# EAGLE library part EAOLEDL128-6 (library pepin)
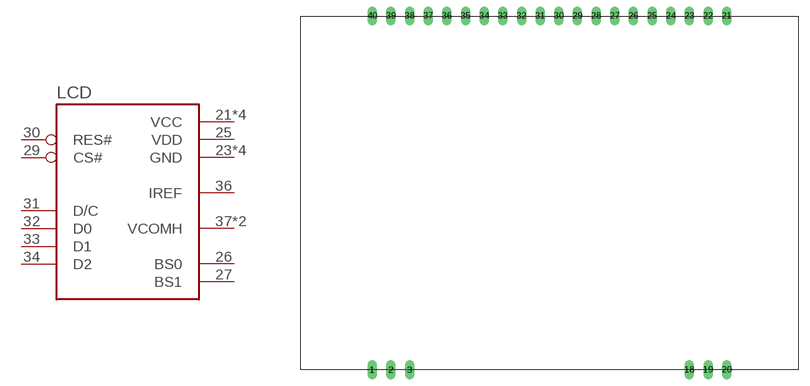
[diagram p25: symbol with the pads of EAOLEDL128-6; footprint EAOLEDL128-6]

Designator prefix LCD

## EAOLEDL128-6  [EAOLEDL128-6]
21  VCC  pwr
22  VCC  pwr
23  GND  pwr
24  GND  pwr
25  VDD  pwr
26  BS0
27  BS1
28  GND  pwr
29  CS#
30  RES#
31  D/C
32  D0
33  D1
34  D2
35  GND  pwr
36  IREF
37  VCOMH
38  VCOMH
39  VCC  pwr
40  VCC  pwr

## Footprint EAOLEDL128-6 (pad centres in mm)
drill 0.8 long: 1 -24.52,-21.59; 2 -21.98,-21.59; 3 -19.44,-21.59; 18 18.66,-21.59; 19 21.2,-21.59; 20 23.74,-21.59; 21 23.74,26.67; 22 21.2,26.67; 23 18.66,26.67; 24 16.12,26.67; 25 13.58,26.67; 26 11.04,26.67; 27 8.5,26.67; 28 5.96,26.67; 29 3.42,26.67; 30 0.88,26.67; 31 -1.66,26.67; 32 -4.2,26.67; 33 -6.74,26.67; 34 -9.28,26.67; 35 -11.82,26.67; 36 -14.36,26.67; 37 -16.9,26.67; 38 -19.44,26.67; 39 -21.98,26.67; 40 -24.52,26.67